# Altium footprint library WE-TI.PcbLib: 10 footprints
Each footprint in its own frame and in the unit in brackets; x right, y up, seen from the top. Pads: shape width x height; smd on the part's side, far side on the other; paste and mask are expansions set on the pad; w line width, h text height; cw(c..) or ccw(c..) is an arc to the next point about the centre after c.
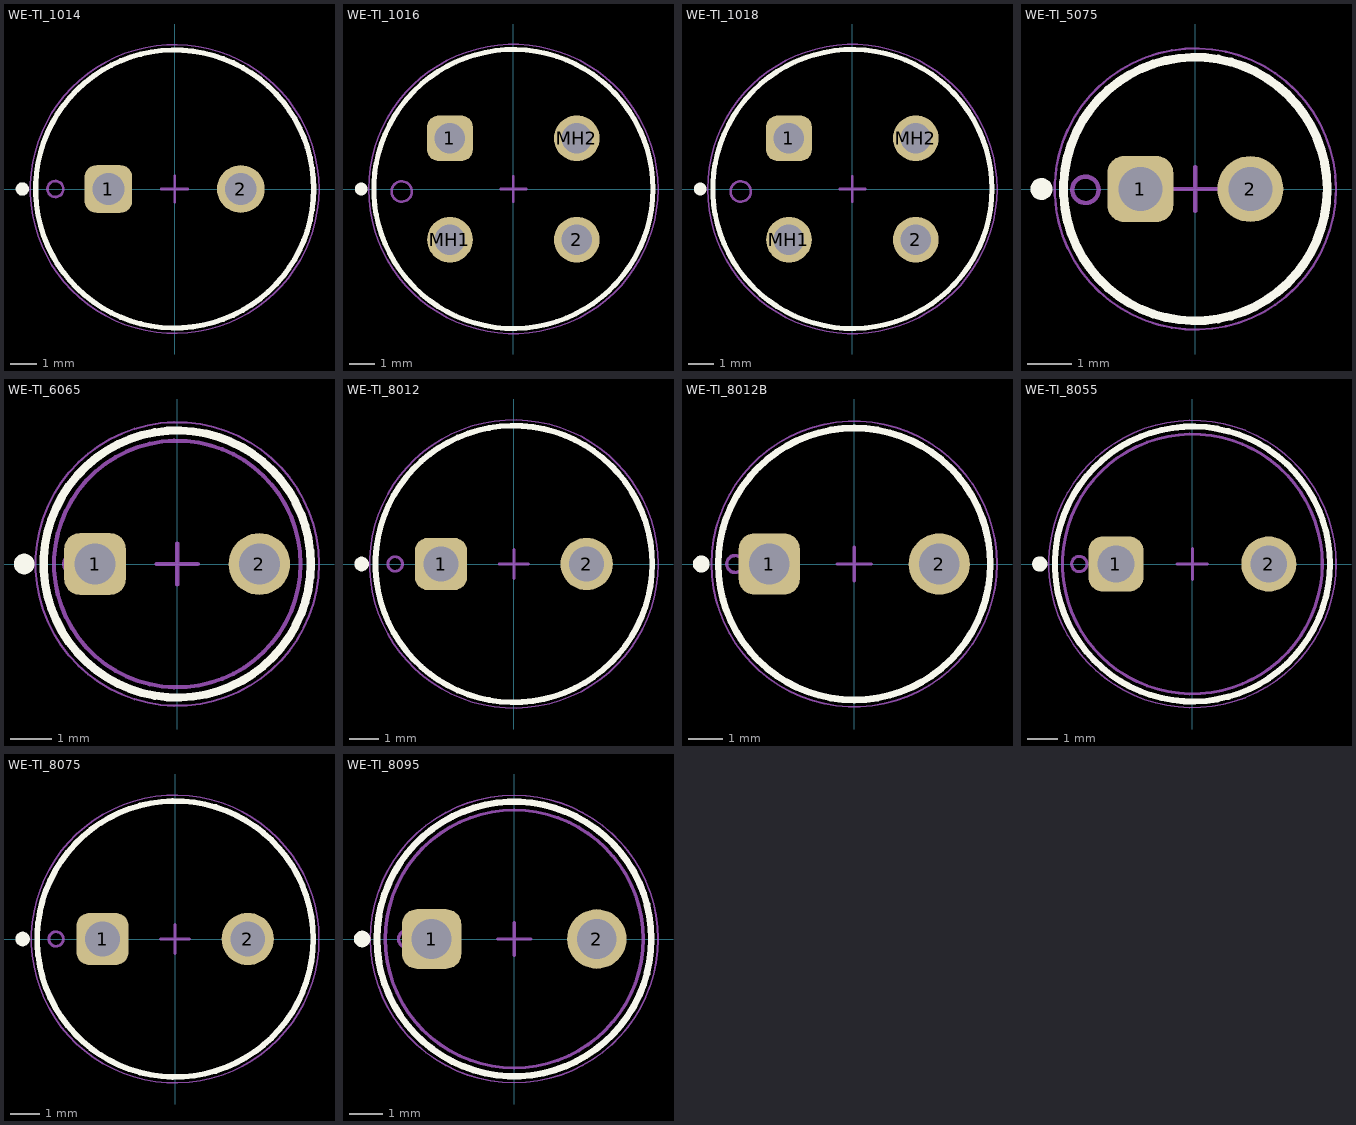
[diagram p0: the footprints below, top view; thin cyan lines are the x and y axes]

## WE-TI_1014 [mm] "Radial Leaded Wire Wound Inductor, body diameter 10.5mm"
height 14.5
pads (2):
  rrect50% 1.8x1.8 hole 1.2: 1(-2.5,0)
  round 1.8 hole 1.2: 2(2.5,0)
Top Overlay:
  circle w0.2: c0,0 r5.25
  circle w0.25: c-5.75,0 r0.125
Top Assembly:
  circle w0.1: c-4.5,0 r0.3
  circle w0.1: c0,0 r5.25
Top Designator:
  text ".Designator" at -3.647,-0.357 h1
Top Courtyard:
  circle w0.05: c0,0 r5.45
Top Component Center:
  lines w0.1: -0.5,0 0.5,0 ; 0,-0.5 0,0.5
3D body "STEP-WE-TI-1014-rev1.stp": height 14.1, standoff -3.45, extent -5,-5 5,5

## WE-TI_1016 [mm] "THT Radial Leaded Wire Wound Inductor with 4 Pins, body diameter 11mm"
height 17
pads (4):
  rrect50% 1.8x1.8 hole 1.2: 1(-2.5,2)
  round 1.8 hole 1.2: 2(2.5,-2) MH1(-2.5,-2) MH2(2.5,2)
Top Overlay:
  circle w0.25: c-6,0 r0.125
  circle w0.2: c0,0 r5.5
Top Assembly:
  circle w0.1: c-4.4,-0.1 r0.4
  circle w0.1: c0,0 r5.5
Top Designator:
  text ".Designator" at -3.647,-0.357 h1
Top Courtyard:
  circle w0.05: c0,0 r5.7
Top Component Center:
  lines w0.1: -0.5,0 0.5,0 ; 0,-0.5 0,0.5
3D body "7447221xxx_1016.stp": height 16.05, standoff -3.45, extent -5.4,-5.4 5.4,5.4

## WE-TI_1018 [mm] "THT Radial Leaded Wire Wound Inductor with 4 Pins, body diameter 11mm"
height 19
pads (4):
  rrect50% 1.8x1.8 hole 1.2: 1(-2.5,2)
  round 1.8 hole 1.2: 2(2.5,-2) MH1(-2.5,-2) MH2(2.5,2)
Top Overlay:
  circle w0.25: c-6,0 r0.125
  circle w0.2: c0,0 r5.5
Top Assembly:
  circle w0.1: c0,0 r5.5
  circle w0.1: c-4.4,-0.1 r0.4
Top Courtyard:
  circle w0.05: c0,0 r5.7
Top Component Center:
  lines w0.1: -0.5,0 0.5,0 ; 0,-0.5 0,0.5
3D body "WE-TIF_7447231xxx_1018.stp": height 18.05, standoff -3.45, extent -5.4,-5.4 5.4,5.4

## WE-TI_5075 [mm] "Radial Leaded Wire Wound Inductor, body diameter 6mm"
height 8.5
pads (2):
  rrect50% 1.5x1.5 hole 1: 1(-1.25,0)
  round 1.5 hole 1: 2(1.25,0)
Top Overlay:
  circle w0.25: c-3.5,0 r0.125
  circle w0.2: c0,0 r3
Top Assembly:
  circle w0.1: c0,0 r3
  circle w0.1: c-2.5,-0.019 r0.3
Top Designator:
  text ".Designator" at -3.647,-0.357 h1
Top Courtyard:
  circle w0.05: c0,0 r3.2
Top Component Center:
  lines w0.1: -0.5,0 0.5,0 ; 0,-0.5 0,0.5
3D body "STEP-WE-TI-5075-rev1.stp": height 7.63, standoff -3.47, extent -2.45,-2.449 2.45,2.449

## WE-TI_6065 [mm] "Radial Leaded Wire Wound Inductor, body diameter 6mm"
height 6.5
pads (2):
  rrect50% 1.5x1.5 hole 1: 1(-2,0)
  round 1.5 hole 1: 2(2,0)
Top Overlay:
  circle w0.2: c0,0 r3.25
  circle w0.25: c-3.725,0 r0.125
Top Assembly:
  circle w0.1: c0,0 r3
  circle w0.1: c-2.5,0 r0.25
Top Designator:
  text ".Designator" at -3.647,-0.357 h1
Top Courtyard:
  circle w0.05: c0,0 r3.45
Top Component Center:
  lines w0.1: -0.5,0 0.5,0 ; 0,-0.5 0,0.5
3D body "STEP-WE-TI-6065-rev1.stp": height 6.55, standoff -3.95, extent -4.171,-4.171 4.171,4.171

## WE-TI_8012 [mm] "Radial Leaded Wire Wound Inductor, body diameter 9.5mm"
height 13.5
pads (2):
  rrect50% 1.8x1.8 hole 1.2: 1(-2.5,0)
  round 1.8 hole 1.2: 2(2.5,0)
Top Overlay:
  circle w0.25: c-5.225,0 r0.125
  circle w0.2: c0,0 r4.75
Top Assembly:
  circle w0.1: c-4.075,0 r0.25
  circle w0.1: c0,0 r4.75
Top Designator:
  text ".Designator" at -3.647,-0.357 h1
Top Courtyard:
  circle w0.05: c0,0 r4.95
Top Component Center:
  lines w0.1: -0.5,0 0.5,0 ; 0,-0.5 0,0.5
3D body "STEP-WE-TI-8012_HST-rev1.stp": height 13.55, standoff -3.45, extent -4.1,-4.1 4.1,4.1

## WE-TI_8012B [mm] "Radial Leaded Wire Wound Inductor, body diameter 8mm"
height 12.5
pads (2):
  rrect50% 1.8x1.8 hole 1.2: 1(-2.5,0)
  round 1.8 hole 1.2: 2(2.5,0)
Top Overlay:
  circle w0.2: c0,0 r4
  circle w0.25: c-4.5,0 r0.125
Top Assembly:
  circle w0.1: c0,0 r4
  circle w0.1: c-3.5,0 r0.25
Top Designator:
  text ".Designator" at -3.647,-0.357 h1
Top Courtyard:
  circle w0.05: c0,0 r4.2
Top Component Center:
  lines w0.1: -0.5,0 0.5,0 ; 0,-0.5 0,0.5
3D body "STEP-WE-TI-8012B_PB-rev1.stp": height 12.55, standoff -4.6, extent -5.348,-5.348 5.348,5.348

## WE-TI_8055 [mm] "Radial Leaded Wire Wound Inductor, body diameter 8.5mm"
height 6
pads (2):
  rrect50% 1.8x1.8 hole 1.2: 1(-2.5,0)
  round 1.8 hole 1.2: 2(2.5,0)
Top Overlay:
  circle w0.25: c-4.99,0 r0.125
  circle w0.2: c0,0 r4.5
Top Assembly:
  circle w0.1: c0,0 r4.25
  circle w0.1: c-3.7,0 r0.25
Top Designator:
  text ".Designator" at -3.647,-0.357 h1
Top Courtyard:
  circle w0.05: c0,0 r4.7
Top Component Center:
  lines w0.1: -0.5,0 0.5,0 ; 0,-0.5 0,0.5
3D body "STEP-WE-TI-8055-rev1.stp": height 5.55, standoff -4.95, extent -5.869,-5.869 5.869,5.869

## WE-TI_8075 [mm] "Radial Leaded Wire Wound Inductor, body diameter 9.5mm"
height 8
pads (2):
  rrect50% 1.8x1.8 hole 1.2: 1(-2.5,0)
  round 1.8 hole 1.2: 2(2.5,0)
Top Overlay:
  circle w0.2: c0,0 r4.75
  circle w0.25: c-5.25,0 r0.125
Top Assembly:
  circle w0.1: c0,0 r4.75
  circle w0.1: c-4.1,0 r0.25
Top Designator:
  text ".Designator" at -3.647,-0.357 h1
Top Courtyard:
  circle w0.05: c0,0 r4.95
Top Component Center:
  lines w0.1: -0.5,0 0.5,0 ; 0,-0.5 0,0.5
3D body "STEP-WE-TI-8075_HST-rev1.stp": height 7.75, standoff -4.95, extent -4.1,-4.1 4.1,4.1

## WE-TI_8095 [mm] "Radial Leaded Wire Wound Inductor, body diameter 7.8mm"
height 10
pads (2):
  rrect50% 1.8x1.8 hole 1.2: 1(-2.5,0)
  round 1.8 hole 1.2: 2(2.5,0)
Top Overlay:
  circle w0.25: c-4.6,0 r0.125
  circle w0.2: c0,0 r4.15
Top Assembly:
  circle w0.1: c-3.25,0 r0.25
  circle w0.1: c0,0 r3.9
Top Designator:
  text ".Designator" at -3.647,-0.357 h1
Top Courtyard:
  circle w0.05: c0,0 r4.35
Top Component Center:
  lines w0.1: -0.5,0 0.5,0 ; 0,-0.5 0,0.5
3D body "WE-TI_8095_Standard (2).stp": height 9.55, standoff -4.95, extent -5.515,-5.515 5.515,5.515